# Altium schematic symbol library AG.Holder.SchLib: 3 symbols
Pins are listed as number, name and electrical type; pins without a type are passive.

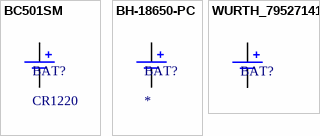
[diagram p0: symbols BC501SM to WURTH_79527141]

## BC501SM
designator BAT?, comment CR1220
Single Cell Battery; Nominal Voltage: 3V; Supplier: DigiKey; Supplier Part No: BC501SM-ND; Supplier Link: https://www.digikey.com/en/products/detail/mpd-memory-protection-devices/BC501SM/2439260; Mounting Technology: SMT; Suitable Battery: CR1220
footprint BC501SM (BATTERY HOLDER COIN 12MM SMD)
pins: N (power), P (power)
1 alternate drawing of the same symbol

## BH-18650-PC
designator BAT?
BATTERY HOLDER 18650 PC PIN; Manufacturer: MPD; Product Number: BH-18650-PC; Supplier Link: https://www.digikey.com/en/products/detail/mpd-memory-protection-devices/BH-18650-PC/3029216; Supplier Part No: BH-18650-PC-ND; Supplier: DigiKey; Mounting Technology: SMT; Datasheet Link: https://www.memoryprotectiondevices.com/datasheets/BH-18650-PC-datasheet.pdf
footprint BH-18650-PC (MPD's 18650 Battery Holder Through-Hole)
pins: N (power), P (power)

## WURTH_79527141
designator BAT?  (value not drawn)
BATT HOLDER COIN 20MM 1 CELL SMD; Manufacturer Part No: 79527141; Manufacturer: Wurth Electronik; Cell Type: CR2032; Mounting Technology: SMT
footprint WURTH_79527141 (BATT HOLDER COIN 20MM 1 CELL SMD)
footprint WURTH_79527141_NO_T-SILK (BATT HOLDER COIN 20MM 1 CELL SMD)
pins: N (power), P (power)